# Altium schematic symbol library CUI_PRM3W-EXX-DXX-S.SchLib: 1 symbol
Pins are listed as number, name and electrical type; pins without a type are passive.

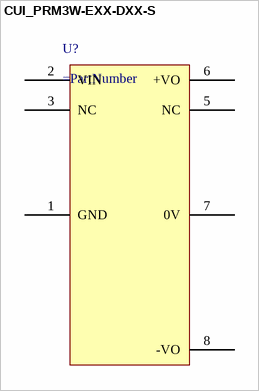
[diagram p0: symbol CUI_PRM3W-EXX-DXX-S]

## CUI_PRM3W-EXX-DXX-S
designator U?
pins: 1 GND, 2 VIN, 3 NC, 5 NC, 6 +VO, 7 0V, 8 -VO